# EAGLE library part BQ27621?-G1* (library BQ27621)
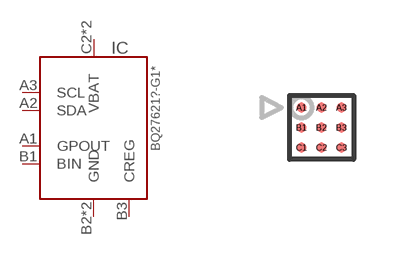
[diagram p0: symbol with the pads of BGA-3X3-0.5; footprint BGA-3X3-0.5]

Designator prefix IC

## BQ27621YZFR-G1A (ADDRESS: 0x55(7)/0xAA(8); MARK: BQ27621 / G1A; MF: Texas Instruments; MPN: BQ27621YZFR-G1A)  [BGA-3X3-0.5]
A1  GPOUT  oc
A2  SDA  oc
A3  SCL  in
B1  BIN  in
B2  GND  pwr
B3  CREG
C1  GND  pwr
C2  VBAT  pwr
C3  VBAT  pwr

## BQ27621YZFT-G1A (ADDRESS: 0x55(7)/0xAA(8); MARK: BQ27621 / G1A; MF: Texas Instruments; MPN: BQ27621YZFT-G1A)  [BGA-3X3-0.5]
Pads as for BGA-3X3-0.5

## Footprint BGA-3X3-0.5 (pad centres in mm)
smd 0.245 x 0.245: A1 -0.5,0.5; A2 0,0.5; A3 0.5,0.5; B1 -0.5,0; B2 0,0; B3 0.5,0; C1 -0.5,-0.5; C2 0,-0.5; C3 0.5,-0.5